# Altium footprint library 研发中心PCB库文件.PcbLib: 333 footprints (part 1 of 21)
Each footprint in its own frame and in the unit in brackets; x right, y up, seen from the top. Pads: shape width x height; smd on the part's side, far side on the other; paste and mask are expansions set on the pad; w line width, h text height; cw(c..) or ccw(c..) is an arc to the next point about the centre after c.
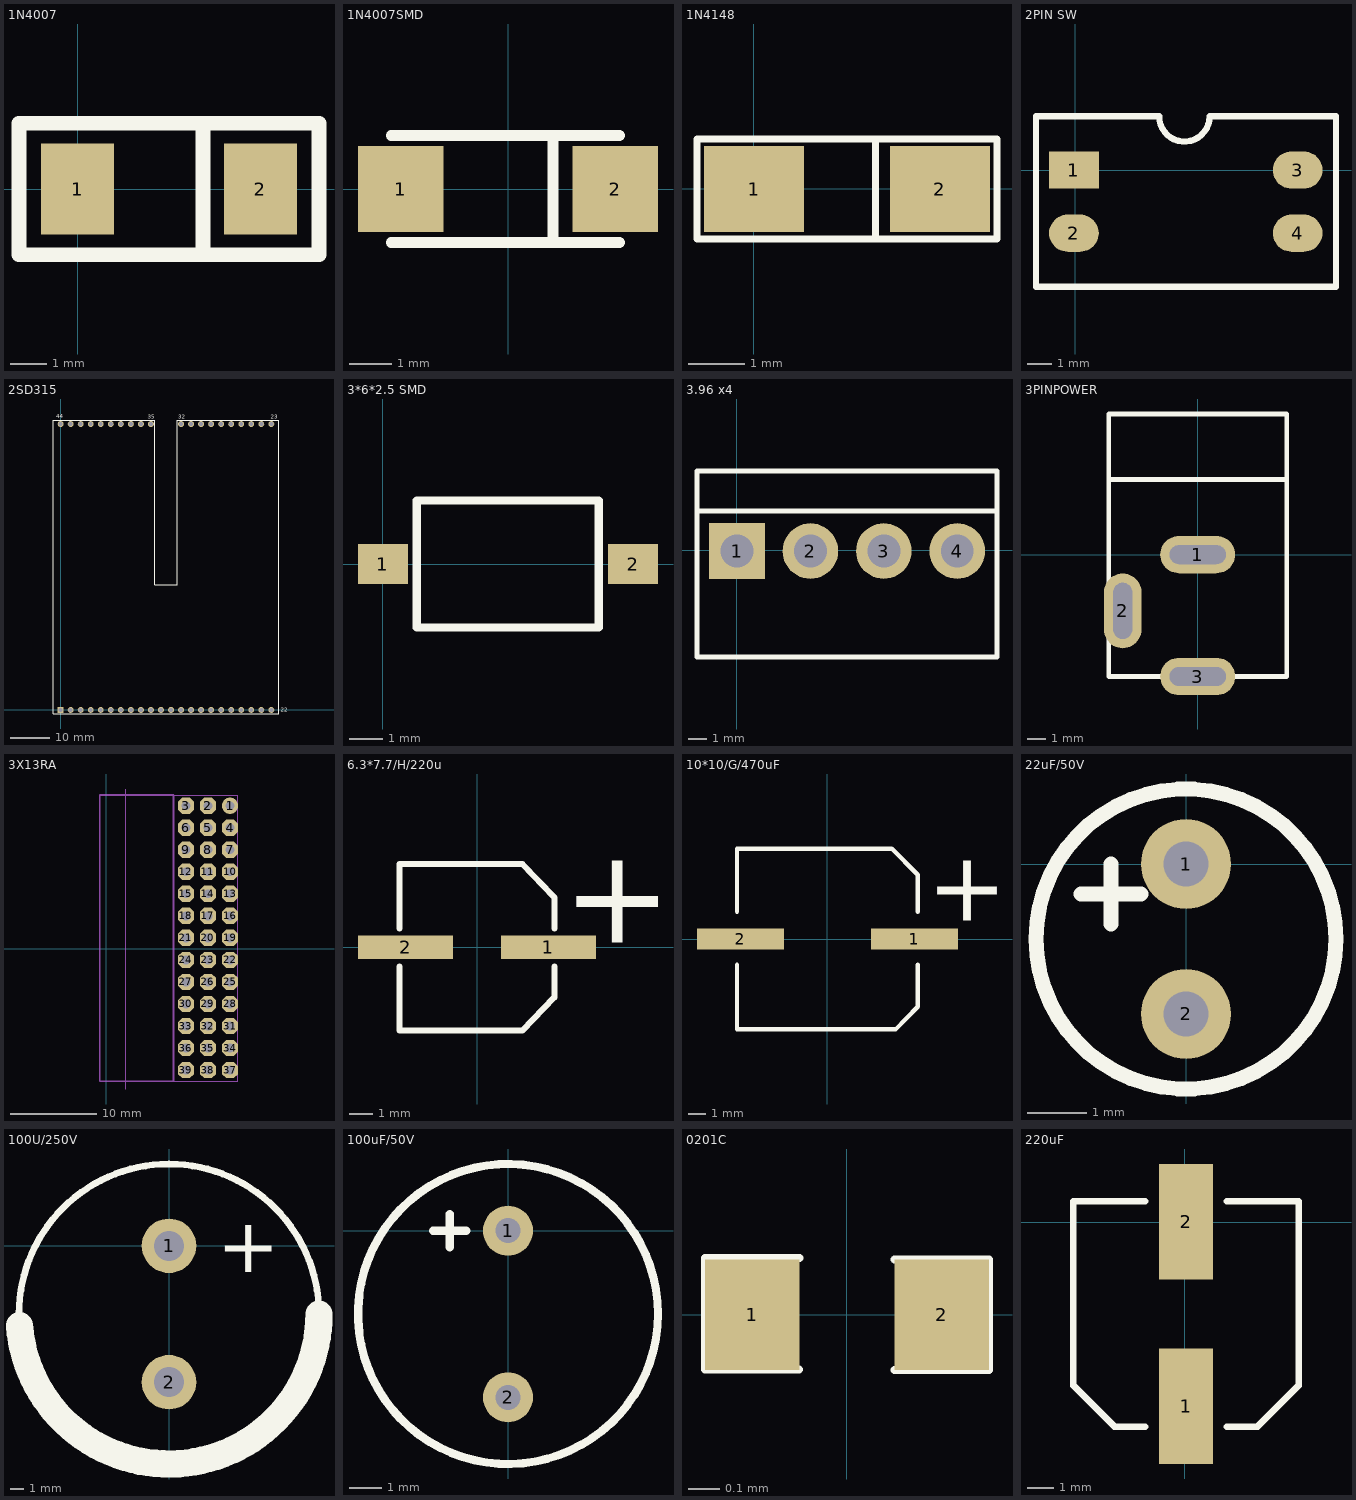
[diagram p0: the footprints below, top view; thin cyan lines are the x and y axes]

## 1N4007 [mm]
pads (2):
  rect 2x2.5 smd: 1(0,0) 2(5,0)
Top Overlay:
  lines w0.4: 3.429,-1.8 3.429,1.8 ; -1.6,-1.8 6.6,-1.8 6.6,1.8 -1.6,1.8 -1.6,-1.8

## 1N4007SMD [mm]
pads (2):
  rect 2x2 smd: 1(-2.5,0) 2(2.5,0)
Top Overlay:
  lines w0.254: -2.725,-1.25 2.6,-1.25 ; -2.725,1.25 2.6,1.25 ; 1.05,-1.225 1.05,1.25

## 1N4148 [mil]
pads (2):
  rect 70x60 smd: 1(0.16,-0.14) 2(130.16,-0.14)
Top Overlay:
  lines w5: 85.16,-35.14 85.16,34.86 ; -39.84,-35.14 170.16,-35.14 170.16,34.86 -39.84,34.86 -39.84,-0.14 -39.84,-35.14

## 2PIN SW [mm]
pads (4):
  rect 2x1.5 smd: 1(-0.046,0.015)
  oval 2x1.5 smd: 2(-0.046,-2.525) 3(8.954,0.015) 4(8.954,-2.525)
Top Overlay:
  lines w0.254: -1.57,-4.684 10.495,-4.684 10.495,2.174 5.415,2.174 cw(c4.399,2.174) 3.383,2.174 -1.57,2.174 -1.57,-4.684

## 2SD315 [mm]
pads (42):
  rect 1.5x1.5 hole 1: 1(0,0)
  round 1.5 hole 1: 2(2.54,0) 3(5.08,0) 4(7.62,0) 5(10.16,0) 6(12.7,0) 7(15.24,0) 8(17.78,0) 9(20.32,0) 10(22.86,0) 11(25.4,0) 12(27.94,0) 13(30.48,0) 14(33.02,0) 15(35.56,0) 16(38.1,0) 17(40.64,0) 18(43.18,0) 19(45.72,0) 20(48.26,0) 21(50.8,0) 22(53.34,0) 23(53.34,72.39) 24(50.8,72.39) 25(48.26,72.39) 26(45.72,72.39) 27(43.18,72.39) 28(40.64,72.39) 29(38.1,72.39) 30(35.56,72.39) 31(33.02,72.39) 32(30.48,72.39) 35(22.86,72.39) 36(20.32,72.39) 37(17.78,72.39) 38(15.24,72.39) 39(12.7,72.39) 40(10.16,72.39) 41(7.62,72.39) 42(5.08,72.39) 43(2.54,72.39) 44(0,72.39)
Top Overlay:
  lines w0.203: -1.905,-1.016 -1.905,73.406 23.876,73.406 23.876,31.75 29.464,31.75 29.464,73.406 55.245,73.406 55.245,-1.016 -1.905,-1.016
  text "44" at -1.143,73.914 h1.02
  text "35" at 22.098,73.787 h1.02
  text "23" at 53.213,73.787 h1.02
  text "22" at 55.753,-0.508 h1.02
  text "32" at 29.718,73.787 h1.02

## 3*6*2.5 SMD [mm]
pads (2):
  rect 1.5x1.2 smd: 1(0,0) 2(7.5,0)
Top Overlay:
  lines w0.254: 1.016,-1.905 6.477,-1.905 6.477,1.905 1.016,1.905 1.016,-1.905

## 3.96 x4 [mm]
pads (4):
  rect 3x3 hole 1.778: 1(0.006,-0.039)
  round 3 hole 1.778: 2(3.966,-0.039) 3(7.926,-0.039) 4(11.886,-0.039)
Top Overlay:
  lines w0.254: -2.153,2.12 14.031,2.12 ; -2.153,-5.754 -2.153,4.279 14.031,4.279 14.031,-5.754 -2.153,-5.754

## 3PINPOWER [mm]
height 1.2
pads (3):
  oval 4x2 hole 1 slot 3 at 0 deg: 1(0,0) 3(0,-6.5)
  oval 2x4 hole 1 slot 3 at 90 deg: 2(-4,-3)
Top Overlay:
  lines w0.254: -4.75,4 4.709,4 ; -4.75,-6.5 4.75,-6.5 4.75,7.5 -4.75,7.5 -4.75,-6.5

## 3X13RA [mil]
pads (39):
  round 74 hole 40: 1(561.38,648.23)
  oct 74x74 hole 40: 2(461.38,648.23) 3(361.38,648.23) 4(561.38,548.23) 5(461.38,548.23) 6(361.38,548.23) 7(561.38,448.23) 8(461.38,448.23) 9(361.38,448.23) 10(561.38,348.23) 11(461.38,348.23) 12(361.38,348.23) 13(561.38,248.23) 14(461.38,248.23) 15(361.38,248.23) 16(561.38,148.23) 17(461.38,148.23) 18(361.38,148.23) 19(561.38,48.23) 20(461.38,48.23) 21(361.38,48.23) 22(561.38,-51.77) 23(461.38,-51.77) 24(361.38,-51.77) 25(561.38,-151.77) 26(461.38,-151.77) 27(361.38,-151.77) 28(561.38,-251.77) 29(461.38,-251.77) 30(361.38,-251.77) 31(561.38,-351.77) 32(461.38,-351.77) 33(361.38,-351.77) 34(561.38,-451.77) 35(461.38,-451.77) 36(361.38,-451.77) 37(561.38,-551.77) 38(461.38,-551.77) 39(361.38,-551.77)
Mechanical 16:
  region: 551.38,658.23 551.38,638.23 571.38,638.23 571.38,658.23
  region: 451.38,658.23 451.38,638.23 471.38,638.23 471.38,658.23
  region: 551.38,558.23 551.38,538.23 571.38,538.23 571.38,558.23
  region: 351.38,658.23 351.38,638.23 371.38,638.23 371.38,658.23
  region: 351.38,558.23 351.38,538.23 371.38,538.23 371.38,558.23
  region: 451.38,558.23 451.38,538.23 471.38,538.23 471.38,558.23
  region: 351.38,-41.77 351.38,-61.77 371.38,-61.77 371.38,-41.77
  region: 451.38,-41.77 451.38,-61.77 471.38,-61.77 471.38,-41.77
  region: 551.38,458.23 551.38,438.23 571.38,438.23 571.38,458.23
  region: 451.38,458.23 451.38,438.23 471.38,438.23 471.38,458.23
  region: 351.38,458.23 351.38,438.23 371.38,438.23 371.38,458.23
  region: 451.38,358.23 451.38,338.23 471.38,338.23 471.38,358.23
  region: 551.38,358.23 551.38,338.23 571.38,338.23 571.38,358.23
  region: 351.38,358.23 351.38,338.23 371.38,338.23 371.38,358.23
  region: 551.38,258.23 551.38,238.23 571.38,238.23 571.38,258.23
  region: 451.38,258.23 451.38,238.23 471.38,238.23 471.38,258.23
  region: 351.38,258.23 351.38,238.23 371.38,238.23 371.38,258.23
  region: 551.38,158.23 551.38,138.23 571.38,138.23 571.38,158.23
  region: 451.38,158.23 451.38,138.23 471.38,138.23 471.38,158.23
  region: 351.38,158.23 351.38,138.23 371.38,138.23 371.38,158.23
  region: 551.38,58.23 551.38,38.23 571.38,38.23 571.38,58.23
  region: 451.38,58.23 451.38,38.23 471.38,38.23 471.38,58.23
  region: 351.38,58.23 351.38,38.23 371.38,38.23 371.38,58.23
  region: 551.38,-41.77 551.38,-61.77 571.38,-61.77 571.38,-41.77
  region: 551.38,-141.77 551.38,-161.77 571.38,-161.77 571.38,-141.77
  region: 451.38,-141.77 451.38,-161.77 471.38,-161.77 471.38,-141.77
  region: 551.38,-241.77 551.38,-261.77 571.38,-261.77 571.38,-241.77
  region: 351.38,-141.77 351.38,-161.77 371.38,-161.77 371.38,-141.77
  region: 351.38,-241.77 351.38,-261.77 371.38,-261.77 371.38,-241.77
  region: 451.38,-241.77 451.38,-261.77 471.38,-261.77 471.38,-241.77
  region: 551.38,-341.77 551.38,-361.77 571.38,-361.77 571.38,-341.77
  region: 451.38,-341.77 451.38,-361.77 471.38,-361.77 471.38,-341.77
  region: 351.38,-341.77 351.38,-361.77 371.38,-361.77 371.38,-341.77
  region: 451.38,-441.77 451.38,-461.77 471.38,-461.77 471.38,-441.77
  region: 551.38,-441.77 551.38,-461.77 571.38,-461.77 571.38,-441.77
  region: 351.38,-441.77 351.38,-461.77 371.38,-461.77 371.38,-441.77
  region: 551.38,-541.77 551.38,-561.77 571.38,-561.77 571.38,-541.77
  region: 451.38,-541.77 451.38,-561.77 471.38,-561.77 471.38,-541.77
  region: 351.38,-541.77 351.38,-561.77 371.38,-561.77 371.38,-541.77
  lines w1: -29.57,-601.97 597.38,-601.97 597.38,-104.13 597.38,696.23 -29.57,696.23 -29.57,-104.13 -29.57,-601.97
  lines w5: 88.54,-637.8 88.54,-75.77 ; 88.54,-123.43 88.54,724.23
  lines w8: -29.57,-103.74 -29.57,-602.36 305.08,-602.36 305.08,-103.74 ; -29.57,-99.77 -29.57,697.23 305.08,697.23 305.08,-99.77

## 6.3*7.7/H/220u [mm]
pads (2):
  rect 4x1 smd: 1(3,0) 2(-3,0)
Top Overlay:
  lines w0.254: -3.25,-0.8 -3.25,-3.5 1.9,-3.5 3.25,-2.1 3.25,-0.8 ; -3.25,0.8 -3.25,3.5 ; -3.2,3.5 1.9,3.5 3.25,2.1 3.25,0.8
  text "+" at 3.6,0.2 h4

## 10*10/G/470uF [mm]
pads (2):
  rect 5x1.2 smd: 1(5,0) 2(-5,0)
Top Overlay:
  lines w0.254: -5.2,-1.482 -5.2,-5.2 3.917,-5.2 5.2,-3.897 5.2,-1.482 ; -5.2,1.566 -5.2,5.2 3.7,5.2 5.2,3.7 5.2,1.566
  text "+" at 5.756,1.048 h4

## 22uF/50V [mil]
pads (2):
  round 60 hole 30: 1(0,0) 2(0,-100)
Top Overlay:
  circle w10: c0,-50 r100
  lines w10: -70,-20 -40,-20 -30,-20 ; -50,-40 -50,0

## 100U/250V [mm]
pads (2):
  round 4 hole 2.2: 1(0,0) 2(0,-10)
Top Overlay:
  circle w0.5: c0,-5 r11
  lines w2: -10.968,-5.844 ccw(c0,-5) 11,-5
  text "+" at 3.556,-1.952 h4

## 100uF/50V [mil]
pads (2):
  round 60 hole 30: 1(0,0) 2(0,-200)
Top Overlay:
  circle w10: c0,-100 r180
  lines w10: -90,0 -50,0 ; -70,-20 -70,20

## 0201C [mm]
pads (2):
  rect 0.3x0.35 smd: 1(-0.3,0) 2(0.3,0)
Top Overlay:
  lines w0.025: -0.152,-0.174 -0.45,-0.174 -0.45,0.179 -0.15,0.179 ; 0.15,-0.175 0.45,-0.175 0.45,0.175 0.15,0.175

## 220uF [mm]
pads (2):
  rect 2x4.3 smd: 1(0.042,-6.849) 2(0.042,0.009)
Top Overlay:
  lines w0.254: -1.482,-7.611 -2.625,-7.611 -4.149,-6.087 -4.149,0.771 -1.482,0.771 ; 1.566,-7.611 2.709,-7.611 4.233,-6.087 4.233,0.771 1.566,0.771